# EAGLE library part MC34933 (library Railstars)
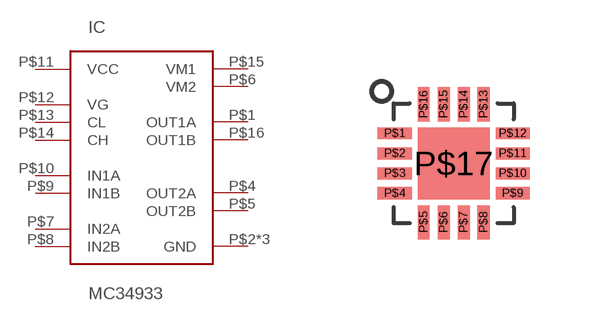
[diagram p10: symbol with the pads of UQFN-16; footprint UQFN-16]

Designator prefix IC

## MC34933  [UQFN-16]
P$1  OUT1A
P$2  GND  pwr
P$3  GND  pwr
P$4  OUT2A
P$5  OUT2B
P$6  VM2  pwr
P$7  IN2A
P$8  IN2B
P$9  IN1B
P$10  IN1A
P$11  VCC  pwr
P$12  VG
P$13  CL
P$14  CH
P$15  VM1  pwr
P$16  OUT1B
P$17  GND  pwr

## Footprint UQFN-16 (pad centres in mm)
smd 0.85 x 0.3: P$1 -1.475,0.75; P$2 -1.475,0.25; P$3 -1.475,-0.25; P$4 -1.475,-0.75; P$9 1.475,-0.75; P$10 1.475,-0.25; P$11 1.475,0.25; P$12 1.475,0.75
smd 0.3 x 0.85: P$5 -0.75,-1.475; P$6 -0.25,-1.475; P$7 0.25,-1.475; P$8 0.75,-1.475; P$13 0.75,1.475; P$14 0.25,1.475; P$15 -0.25,1.475; P$16 -0.75,1.475
smd 1.8 x 1.8: P$17 0,0